# Altium footprint library EM_Power.PcbLib: 23 footprints (part 2 of 2)
Each footprint in its own frame and in the unit in brackets; x right, y up, seen from the top. Pads: shape width x height; smd on the part's side, far side on the other; paste and mask are expansions set on the pad; w line width, h text height; cw(c..) or ccw(c..) is an arc to the next point about the centre after c.
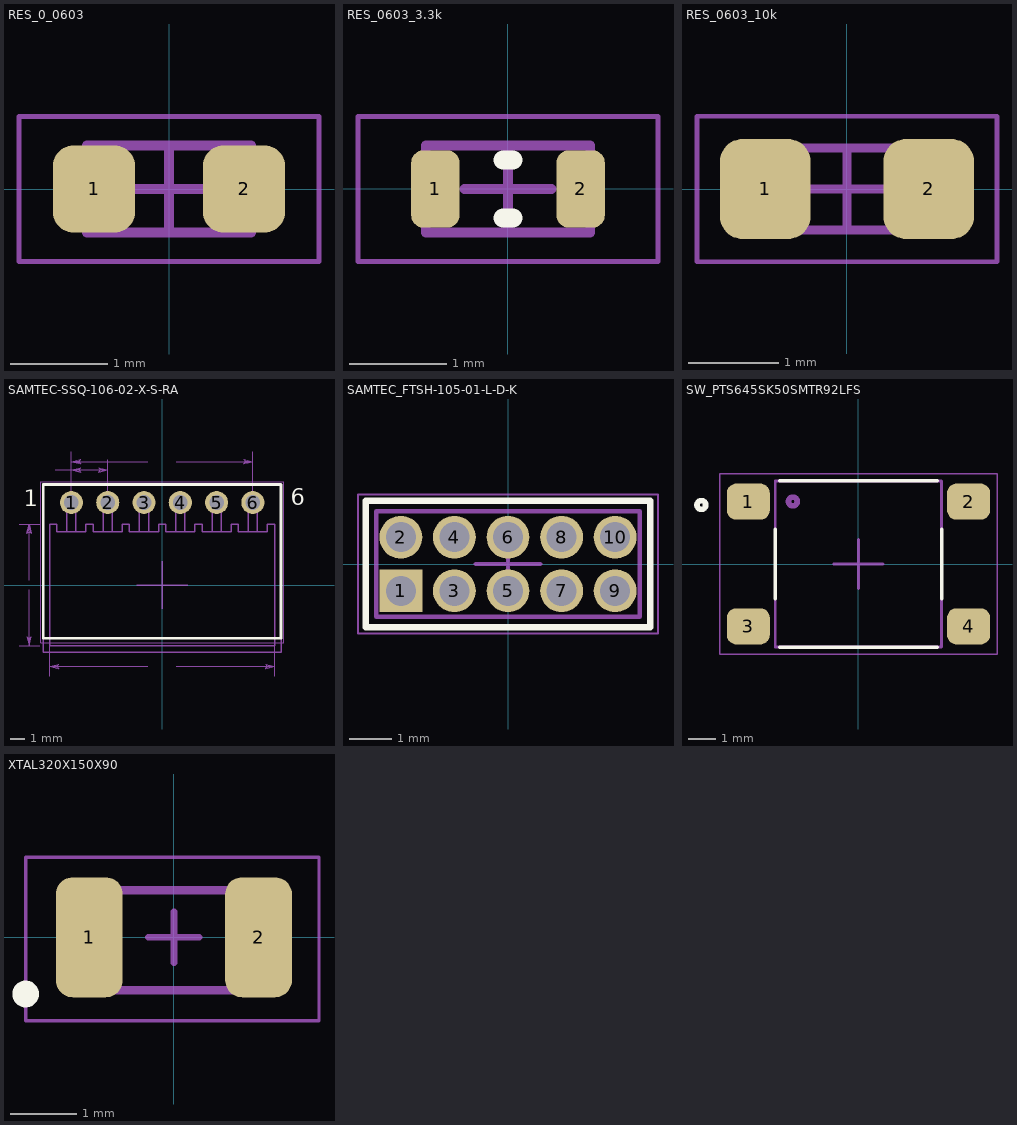
[diagram p1: the footprints below, top view; thin cyan lines are the x and y axes]

## RES_0_0603 [mm] "RES SMD 0 OHM JUMPER 1/10W 0603"
height 0.55
pads (2):
  rrect50% 0.85x0.9 smd: 1(-0.775,0) 2(0.775,0)
Mechanical 13:
  lines w0.1: -0.85,-0.45 0.85,-0.45 0.85,0.45 -0.85,0.45 -0.85,-0.45
  text ".Designator" at -0.612,-0.318 h0.5
Mechanical 15:
  lines w0.05: -1.55,-0.75 1.55,-0.75 1.55,0.75 -1.55,0.75 -1.55,-0.75
  lines w0.1: -0.45,0 0.45,0 ; 0,-0.45 0,0.45
3D body "RES_0_0603.step": height 0.55, standoff 0, extent -0.85,-0.45 0.85,0.45

## RES_0603_3.3k [mm] "RES SMD 3.3 KOHM 1% 0.3W 0603"
height 0.55
pads (2):
  rrect50% 0.5x0.8 smd: 1(-0.75,0) 2(0.75,0)
Top Overlay:
  lines w0.2: -0.05,-0.3 0.05,-0.3 ; -0.05,0.3 0.05,0.3
Mechanical 13:
  lines w0.1: -0.85,-0.45 -0.85,0.45 0.85,0.45 0.85,-0.45 -0.85,-0.45
  text ".Designator" at -0.612,-0.318 h0.5
Mechanical 15:
  lines w0.05: -1.55,-0.75 -1.55,0.75 1.55,0.75 1.55,-0.75 -1.55,-0.75
  lines w0.1: -0.45,0 0.45,0 ; 0,-0.45 0,0.45
3D body "RES_0603_3.3k.step": height 0.55, standoff 0, extent -0.85,-0.45 0.85,0.45

## RES_0603_10k [mm] "RES SMD 10K OHM 1% 1/16W 0603"
height 0.55
pads (2):
  rrect50% 1x1.1 smd: 1(-0.9,0) 2(0.9,0)
Mechanical 13:
  lines w0.1: -0.825,-0.45 0.825,-0.45 0.825,0.45 -0.825,0.45 -0.825,-0.45
  text ".Designator" at -0.612,-0.318 h0.5
Mechanical 15:
  lines w0.05: -1.651,-0.8 1.651,-0.8 1.651,0.8 -1.651,0.8 -1.651,-0.8
  lines w0.1: -0.45,0 0.45,0 ; 0,-0.45 0,0.45
3D body "RES_0603_10k.step": height 0.55, standoff 0, extent -0.825,-0.45 0.825,0.45

## SAMTEC-SSQ-106-02-X-S-RA [mm]
pads (6):
  round 1.62 / inner round 1.524 / far side round 1.62 hole 1.02: 1(-6.35,5.778) 2(-3.81,5.778) 3(-1.27,5.778) 4(1.27,5.778) 5(3.81,5.778) 6(6.35,5.778)
Top Overlay:
  lines w0.2: -8.324,-3.725 -8.324,7.039 8.324,7.039 8.324,-3.725 -8.324,-3.725
  text "6" at 9.015,5.194 h1.97
  text "1" at -9.694,5.144 h1.97
Top Solder:
  circle w0: c6.35,5.778 r0.861
  circle w0: c3.81,5.778 r0.861
  circle w0: c1.27,5.778 r0.861
  circle w0: c-1.27,5.778 r0.861
  circle w0: c-3.81,5.778 r0.861
  circle w0: c-6.35,5.778 r0.861
Bottom Solder:
  circle w0: c6.35,5.778 r0.861
  circle w0: c3.81,5.778 r0.861
  circle w0: c1.27,5.778 r0.861
  circle w0: c-1.27,5.778 r0.861
  circle w0: c-3.81,5.778 r0.861
  circle w0: c-6.35,5.778 r0.861
Mechanical 13:
  lines w0.1: -6.668,3.746 -6.668,6.096 -6.032,6.096 -6.032,3.746 ; -4.128,3.746 -4.128,6.096 -3.492,6.096 -3.492,3.746 ; -1.588,3.746 -1.588,6.096 -0.952,6.096 -0.952,3.746 ; 0.952,3.746 0.952,6.096 1.588,6.096 1.588,3.746 ; 3.492,3.746 3.492,6.096 4.128,6.096 4.128,3.746 ; 6.032,3.746 6.032,6.096 6.668,6.096 6.668,3.746 ; -7.874,-4.254 -7.874,4.254 -7.366,4.254 -7.366,3.746 -5.334,3.746 -5.334,4.254 -5.08,4.254 -4.826,4.254 -4.826,3.746 -2.794,3.746 -2.794,4.254 -2.54,4.254 -2.286,4.254 -2.286,3.746 -0.254,3.746 -0.254,4.254 0,4.254 0.254,4.254 0.254,3.746 2.286,3.746 2.286,4.254 2.54,4.254 2.794,4.254 2.794,3.746 4.826,3.746 4.826,4.254 5.08,4.254 5.334,4.254 5.334,3.746 7.366,3.746 7.366,4.254 7.874,4.254 7.874,-4.254 5.08,-4.254 2.54,-4.254 0,-4.254 -2.54,-4.254 -5.08,-4.254 -7.874,-4.254
  text ".Designator" at -7.366,-3.556 h1.52
  text "6" at 9.015,5.194 h1.97
  text "1" at -9.694,5.144 h1.97
Mechanical 15:
  lines w0.05: -8.509,-4.05 -4.051,-4.05 4.051,-4.05 8.509,-4.05 8.509,7.239 -8.509,7.239 -8.509,-4.05
  lines w0.1: -1.778,0 1.778,0 ; 0,-1.651 0,1.651
Mechanical 30:
  lines w0: -10.023,-4.254 -8.575,-4.254 ; -10.023,4.254 -8.575,4.254 ; -9.322,-0.318 -9.322,-4.254 ; -9.322,0.318 -9.322,4.254 ; -7.874,-6.391 -7.874,3.553 ; -7.468,8.064 -6.35,8.064 ; -6.35,8.766 -6.35,6.48 -6.35,9.337 ; -3.81,6.48 -3.81,8.766 ; -0.991,-5.69 -7.874,-5.69 ; -0.991,8.636 -6.35,8.636 ; 0.991,-5.69 7.874,-5.69 ; 0.991,8.636 6.35,8.636 ; 6.35,6.48 6.35,9.337 ; 7.874,-6.391 7.874,3.553 ; -9.481,-3.62 -9.401,-3.683 -9.322,-4.254 ; -9.481,-3.62 -9.322,-3.746 ; -9.481,-3.62 -9.322,-4.254 ; -9.322,-4.254 -9.322,-3.746 ; -9.322,-4.254 -9.242,-3.683 -9.322,-3.746 ; -9.322,-4.254 -9.163,-3.62 -9.322,-3.746 ; -9.322,3.746 -9.322,4.254 ; -9.322,3.746 -9.401,3.683 -9.322,4.254 ; -9.322,3.746 -9.163,3.62 ; -9.322,3.746 -9.481,3.62 -9.322,4.254 ; -9.322,4.254 -9.242,3.683 -9.163,3.62 ; -9.322,4.254 -9.163,3.62 ; -7.874,-5.69 -7.302,-5.61 -7.239,-5.531 ; -7.874,-5.69 -7.366,-5.69 ; -7.874,-5.69 -7.302,-5.769 -7.366,-5.69 ; -7.874,-5.69 -7.239,-5.848 -7.366,-5.69 ; -7.874,-5.69 -7.239,-5.531 ; -7.366,-5.69 -7.239,-5.531 ; -6.35,8.064 -3.81,8.064 ; -6.35,8.064 -5.778,8.144 -5.715,8.223 ; -6.35,8.064 -5.842,8.064 ; -6.35,8.064 -5.778,7.985 -5.842,8.064 ; -6.35,8.064 -5.715,7.906 -5.842,8.064 ; -6.35,8.064 -5.715,8.223 ; -6.35,8.636 -5.778,8.715 -5.715,8.795 ; -6.35,8.636 -5.842,8.636 ; -6.35,8.636 -5.778,8.557 -5.842,8.636 ; -6.35,8.636 -5.715,8.477 -5.842,8.636 ; -6.35,8.636 -5.715,8.795 ; -5.842,8.064 -5.715,8.223 ; -5.842,8.636 -5.715,8.795 ; -4.445,7.906 -4.382,7.985 -3.81,8.064 ; -4.445,7.906 -4.318,8.064 ; -4.445,7.906 -3.81,8.064 ; -4.318,8.064 -3.81,8.064 ; -4.318,8.064 -4.382,8.144 -3.81,8.064 ; -4.318,8.064 -4.445,8.223 -3.81,8.064 ; 5.715,8.477 5.778,8.557 6.35,8.636 ; 5.715,8.477 5.842,8.636 ; 5.715,8.477 6.35,8.636 ; 5.842,8.636 6.35,8.636 ; 5.842,8.636 5.778,8.715 6.35,8.636 ; 5.842,8.636 5.715,8.795 6.35,8.636 ; 7.239,-5.848 7.302,-5.769 7.874,-5.69 ; 7.239,-5.848 7.366,-5.69 ; 7.239,-5.848 7.874,-5.69 ; 7.366,-5.69 7.874,-5.69 ; 7.366,-5.69 7.302,-5.61 7.874,-5.69 ; 7.366,-5.69 7.239,-5.531 7.874,-5.69
  text "12.700" at -0.8,8.509 h0.39
  text "15.748" at -0.8,-5.817 h0.39
  text "2.540" at -8.979,7.938 h0.39
  text "8.509" at -9.982,-0.127 h0.39
Mechanical 32:
  lines w0.1: -8.324,-4.705 8.324,-4.705 8.324,7.039 -8.324,7.039 -8.324,-4.705
3D body "PPPC061LGBN-RC--3DModel-STEP-56544.STEP": height 2.57, standoff -3.12, extent -7.874,-4.318 7.874,6.143

## SAMTEC_FTSH-105-01-L-D-K [mil]
pads (10):
  rect 40x40 hole 28 mask+2: 1(-100,-25)
  round 40 hole 28 mask+2: 2(-100,25) 3(-50,-25) 4(-50,25) 5(0,-25) 6(0,25) 7(50,-25) 8(50,25) 9(100,-25) 10(100,25)
Top Overlay:
  lines w6: -132.87,-59.06 132.87,-59.06 132.87,59.06 -132.87,59.06 -132.87,-59.06
Mechanical 13:
  lines w3.94: -123.03,-49.21 123.03,-49.21 123.03,49.21 -123.03,49.21 -123.03,-49.21
  text ".Designator" at -100,-30.01 h60
Mechanical 15:
  lines w1.97: -140,-65 -140,65 140,65 140,-65 -140,-65
  lines w3.94: -30,0 30,0 ; 0,-25 0,25
3D body "FTSH-105-01-L-D-K.stp": height 225, standoff -90, extent -125,-101.57 125,98.43

## SW_PTS645SK50SMTR92LFS [mm]
pads (4):
  rrect50% 1.55x1.3 smd: 1(-3.975,2.25) 2(3.975,2.25) 3(-3.975,-2.25) 4(3.975,-2.25)
Top Overlay:
  circle w0.2: c-5.67,2.13 r0.158
  lines w0.127: -3,-1.25 -3,1.25 ; -2.85,-3 2.85,-3 ; -2.85,3 2.85,3 ; 3,-1.25 3,1.25
Mechanical 13:
  circle w0.2: c-2.368,2.257 r0.158
  lines w0.1: -3,-3 -3,3 3,3 3,-3 -3,-3
  text ".Designator" at -2.667,-2.667 h1.52
Mechanical 15:
  lines w0.05: -5,-3.25 5,-3.25 5,3.25 -5,3.25 -5,-3.25
  lines w0.1: -0.889,0 0.889,0 ; 0,-0.889 0,0.889
3D body "PTS645SK50SMTR92LFS--3DModel-STEP-1.STEP": height 5.1, standoff 0, extent -4.5,-3 4.5,3

## XTAL320X150X90 [mm]
pads (2):
  rrect50% 1x1.8 smd: 1(-1.269,0) 2(1.269,0)
Top Overlay:
  circle w0.2: c-2.223,-0.85 r0.1
Mechanical 13:
  lines w0.127: -1.6,-0.791 -1.6,0.709 1.6,0.709 1.6,-0.791 -1.6,-0.791
  text ".Designator" at -1.32,-0.57 h0.75
Mechanical 15:
  lines w0.05: -2.223,-1.251 2.175,-1.251 2.175,1.2 -2.223,1.2 -2.223,-1.251
  lines w0.1: -0.381,0 0.381,0 ; 0,-0.381 0,0.381
3D body "User Library-NDK_NX3215SA.STEP": height 0.8, standoff 0, extent -1.6,-0.75 1.6,0.75